# EAGLE library part AD5755ACPZ-REEL7 (library AD5755ACPZ-REEL7--Symbol-Eagle-80)
16-Bit, Serial Input and Voltage Output DAC
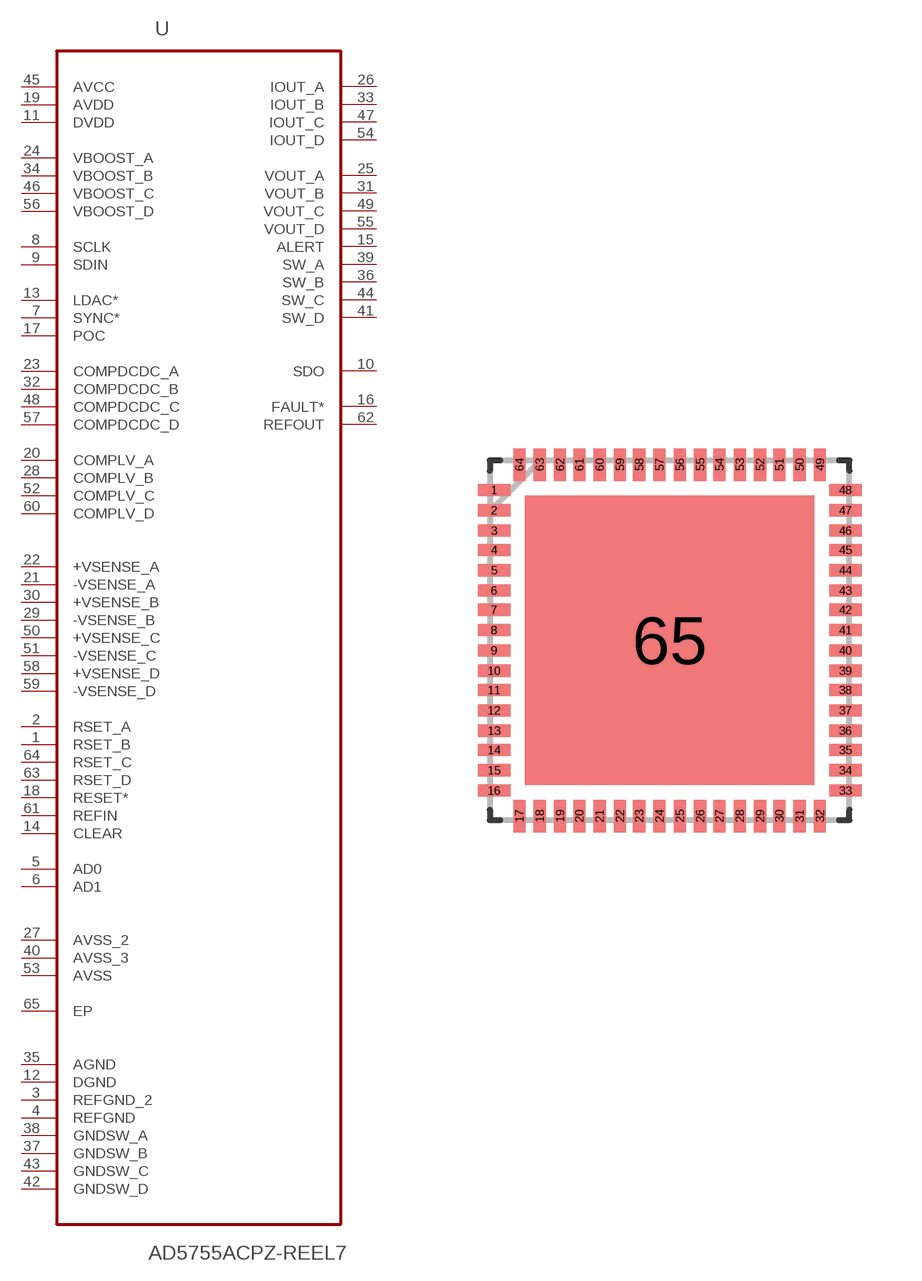
[diagram p0: symbol with the pads of QFN50P900X900X100-65N; footprint QFN50P900X900X100-65N]

Designator prefix U

## AD5755ACPZ-REEL7 (MPN: AD5755ACPZ-REEL7; OC_FARNELL: 1944981; OC_NEWARK: 51T1994; PACKAGE: LFCSP-64; SUPPLIER: Analog Devices)  [QFN50P900X900X100-65N]
1  RSET_B  pas
2  RSET_A  pas
3  REFGND_2  pas
4  REFGND  pas
5  AD0  pas
6  AD1  pas
7  SYNC*  in
8  SCLK  in
9  SDIN  in
10  SDO  out
11  DVDD  pwr
12  DGND  pas
13  LDAC*  in
14  CLEAR  in
15  ALERT  out
16  FAULT*  out
17  POC  pas
18  RESET*  in
19  AVDD  pwr
20  COMPLV_A  pas
21  -VSENSE_A  pas
22  +VSENSE_A  pas
23  COMPDCDC_A  pas
24  VBOOST_A  pwr
25  VOUT_A  out
26  IOUT_A  out
27  AVSS_2  pwr
28  COMPLV_B  pas
29  -VSENSE_B  pas
30  +VSENSE_B  pas
31  VOUT_B  out
32  COMPDCDC_B  pas
33  IOUT_B  out
34  VBOOST_B  pwr
35  AGND  pas
36  SW_B  out
37  GNDSW_B  pas
38  GNDSW_A  pas
39  SW_A  out
40  AVSS_3  pwr
41  SW_D  out
42  GNDSW_D  pas
43  GNDSW_C  pas
44  SW_C  out
45  AVCC  pwr
46  VBOOST_C  pwr
47  IOUT_C  out
48  COMPDCDC_C  pas
49  VOUT_C  out
50  +VSENSE_C  pas
51  -VSENSE_C  pas
52  COMPLV_C  pas
53  AVSS  pwr
54  IOUT_D  out
55  VOUT_D  out
56  VBOOST_D  pwr
57  COMPDCDC_D  pas
58  +VSENSE_D  pas
59  -VSENSE_D  pas
60  COMPLV_D  pas
61  REFIN  in
62  REFOUT  out
63  RSET_D  pas
64  RSET_C  pas
65  EP  pas

## Footprint QFN50P900X900X100-65N (pad centres in mm)
smd 0.813 x 0.305: 1 -4.394,3.759; 2 -4.394,3.251; 3 -4.394,2.743; 4 -4.394,2.261; 5 -4.394,1.753; 6 -4.394,1.245; 7 -4.394,0.762; 8 -4.394,0.254; 9 -4.394,-0.254; 10 -4.394,-0.762; 11 -4.394,-1.245; 12 -4.394,-1.753; 13 -4.394,-2.261; 14 -4.394,-2.743; 15 -4.394,-3.251; 16 -4.394,-3.759; 33 4.394,-3.759; 34 4.394,-3.251; 35 4.394,-2.743; 36 4.394,-2.261; 37 4.394,-1.753; 38 4.394,-1.245; 39 4.394,-0.762; 40 4.394,-0.254; 41 4.394,0.254; 42 4.394,0.762; 43 4.394,1.245; 44 4.394,1.753; 45 4.394,2.261; 46 4.394,2.743; 47 4.394,3.251; 48 4.394,3.759
smd 0.305 x 0.813: 17 -3.759,-4.394; 18 -3.251,-4.394; 19 -2.743,-4.394; 20 -2.261,-4.394; 21 -1.753,-4.394; 22 -1.245,-4.394; 23 -0.762,-4.394; 24 -0.254,-4.394; 25 0.254,-4.394; 26 0.762,-4.394; 27 1.245,-4.394; 28 1.753,-4.394; 29 2.261,-4.394; 30 2.743,-4.394; 31 3.251,-4.394; 32 3.759,-4.394; 49 3.759,4.394; 50 3.251,4.394; 51 2.743,4.394; 52 2.261,4.394; 53 1.753,4.394; 54 1.245,4.394; 55 0.762,4.394; 56 0.254,4.394; 57 -0.254,4.394; 58 -0.762,4.394; 59 -1.245,4.394; 60 -1.753,4.394; 61 -2.261,4.394; 62 -2.743,4.394; 63 -3.251,4.394; 64 -3.759,4.394
smd 7.239 x 7.239: 65 0,0